# EAGLE library part TLV320DAC3100 (library ic-TI)
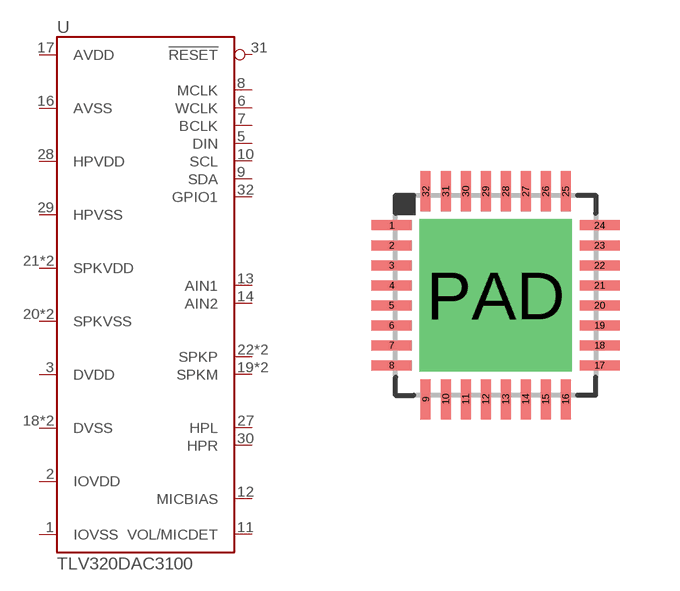
[diagram p52: symbol with the pads of QFN32-0.5-PAD; footprint QFN32-0.5-PAD]

Designator prefix U

## TLV320DAC3100  [QFN32-0.5-PAD]
1  IOVSS
2  IOVDD
3  DVDD
5  DIN
6  WCLK
7  BCLK
8  MCLK
9  SDA
10  SCL
11  VOL/MICDET
12  MICBIAS
13  AIN1
14  AIN2
16  AVSS
17  AVDD
18  DVSS
19  SPKM
20  SPKVSS
21  SPKVDD
22  SPKP
23  SPKM
24  SPKVDD
25  SPKVSS
26  SPKP
27  HPL
28  HPVDD
29  HPVSS
30  HPR
31  !RESET
32  GPIO1
PAD  DVSS

## Footprint QFN32-0.5-PAD (pad centres in mm)
smd 1 x 0.25: 1 -2.6,1.75; 2 -2.6,1.25; 3 -2.6,0.75; 4 -2.6,0.25; 5 -2.6,-0.25; 6 -2.6,-0.75; 7 -2.6,-1.25; 8 -2.6,-1.75; 17 2.6,-1.75; 18 2.6,-1.25; 19 2.6,-0.75; 20 2.6,-0.25; 21 2.6,0.25; 22 2.6,0.75; 23 2.6,1.25; 24 2.6,1.75
smd 0.25 x 1: 9 -1.75,-2.6; 10 -1.25,-2.6; 11 -0.75,-2.6; 12 -0.25,-2.6; 13 0.25,-2.6; 14 0.75,-2.6; 15 1.25,-2.6; 16 1.75,-2.6; 25 1.75,2.6; 26 1.25,2.6; 27 0.75,2.6; 28 0.25,2.6; 29 -0.25,2.6; 30 -0.75,2.6; 31 -1.25,2.6; 32 -1.75,2.6
drill 2.8 pad 3.5 square: PAD 0,0